# EAGLE library part LAIRD_RM1XX (library lorawan-modules)
Laird LoRaWAN module RM1XX Link: https://www.lairdtech.com/blog/laird-rm1xx-combines-lora-ble-enabling-eiot-miles?language=en
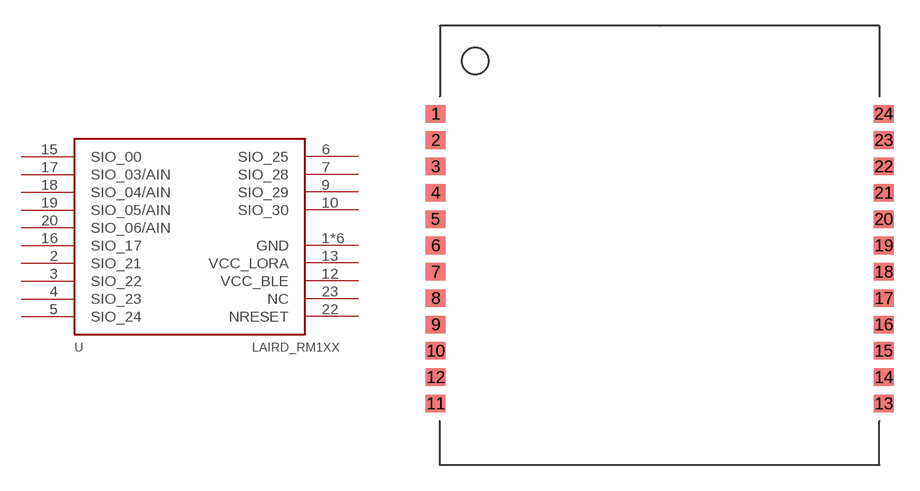
[diagram p1: symbol with the pads of LAIRD_RM1XX; footprint LAIRD_RM1XX]

Designator prefix -

## LAIRD_RM1XX  [LAIRD_RM1XX]
1  GND  pwr
2  SIO_21
3  SIO_22
4  SIO_23
5  SIO_24
6  SIO_25
7  SIO_28
8  GND  pwr
9  SIO_29
10  SIO_30
11  GND  pwr
12  VCC_BLE  pwr
13  VCC_LORA  pwr
14  GND  pwr
15  SIO_00
16  SIO_17
17  SIO_03/AIN
18  SIO_04/AIN
19  SIO_05/AIN
20  SIO_06/AIN
21  GND  pwr
22  NRESET  in
23  NC  nc
24  GND  pwr

## Footprint LAIRD_RM1XX (pad centres in mm)
smd 1.143 x 1.016: 1 -0.254,-5.08; 2 -0.254,-6.604; 3 -0.254,-8.128; 4 -0.254,-9.652; 5 -0.254,-11.176; 6 -0.254,-12.7; 7 -0.254,-14.224; 8 -0.254,-15.748; 9 -0.254,-17.272; 10 -0.254,-18.796; 11 -0.254,-21.844; 12 -0.254,-20.32; 13 25.654,-21.844; 14 25.654,-20.32; 15 25.654,-18.796; 16 25.654,-17.272; 17 25.654,-15.748; 18 25.654,-14.224; 19 25.654,-12.7; 20 25.654,-11.176; 21 25.654,-9.652; 22 25.654,-8.128; 23 25.654,-6.604; 24 25.654,-5.08